# Altium footprint library PresenceSensros.PcbLib: 2 footprints
Each footprint in its own frame and in the unit in brackets; x right, y up, seen from the top. Pads: shape width x height; smd on the part's side, far side on the other; paste and mask are expansions set on the pad; w line width, h text height; cw(c..) or ccw(c..) is an arc to the next point about the centre after c.
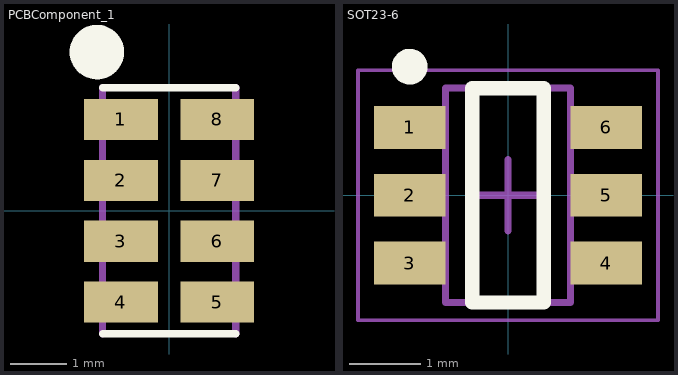
[diagram p0: the footprints below, top view; thin cyan lines are the x and y axes]

## PCBComponent_1 [mm]
pads (8):
  rect 1.3x0.725 smd: 1(-0.85,1.613) 2(-0.85,0.538) 3(-0.85,-0.537) 4(-0.85,-1.612) 5(0.85,-1.612) 6(0.85,-0.537) 7(0.85,0.538) 8(0.85,1.613)
Top Overlay:
  circle w0.5: c-1.275,2.8 r0.23
  lines w0.127: -1.175,2.17 1.175,2.17 ; -1.175,-2.17 1.175,-2.17 -1.175,-2.17
Mechanical 1:
  lines w0.127: -1.175,-2.17 -1.175,2.17 ; 1.175,-2.17 1.175,2.17
3D body "User Library-VCNL4040.STEP": height 1.11, standoff 0.01, extent -0.975,-1.975 1.025,2.025

## SOT23-6 [mm] "SOT23, 6-Leads, Body 2,90x2,80mm, Pitch 0,95mm, IPC Medium Density"
height 1.45
pads (6):
  rect 1x0.6 smd: 1(-1.375,0.95) 2(-1.375,0) 3(-1.375,-0.95) 4(1.375,-0.95) 5(1.375,0) 6(1.375,0.95)
Top Overlay:
  circle w0.25: c-1.375,1.8 r0.125
  lines w0.2: -0.5,-1.5 -0.5,1.5 0.5,1.5 0.5,-1.5 -0.5,-1.5
Mechanical 13:
  lines w0.1: -0.875,-1.5 0.875,-1.5 0.875,1.5 -0.875,1.5 -0.875,-1.5
Mechanical 15:
  lines w0.05: -2.1,-1.75 2.1,-1.75 2.1,1.75 -2.1,1.75 -2.1,-1.75
  lines w0.1: -0.5,0 0.5,0 ; 0,-0.5 0,0.5
3D body "SOT95P280X145-6N.step": height 1.45, standoff 0, extent -1.5,-1.5 1.5,1.5